# Altium footprint library SDCard.PcbLib: 4 footprints
Each footprint in its own frame and in the unit in brackets; x right, y up, seen from the top. Pads: shape width x height; smd on the part's side, far side on the other; paste and mask are expansions set on the pad; w line width, h text height; cw(c..) or ccw(c..) is an arc to the next point about the centre after c.
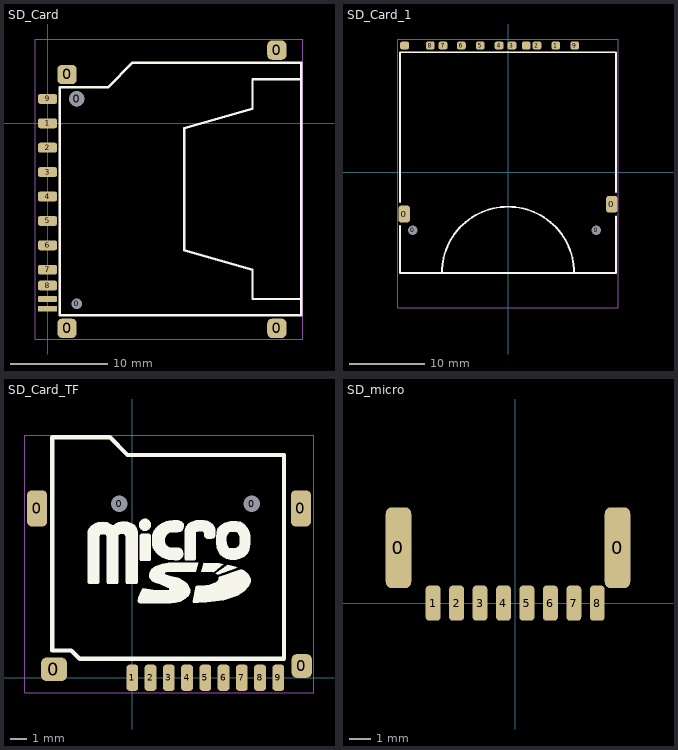
[diagram p0: the footprints below, top view; thin cyan lines are the x and y axes]

## SD_Card [mil]
pads (17):
  rrect50% 78x78 smd: 0(78.74,-826.77) 0(78.74,196.85) 0(925.2,-826.77) 0(925.2,295.28)
  round 40 hole 43.31 mask+0: 0(118.11,-728.35)
  round 60 hole 62.99 mask+0: 0(118.11,98.42)
  rrect50% 78x40 smd: 1(0,0) 2(0,-98.43) 3(0,-196.85) 4(0,-295.28) 5(0,-393.7) 6(0,-492.13) 7(0,-590.55) 8(0,-654.53) 9(0,98.42)
  rrect50% 78x24 smd: 10(0,-708.66) 11(0,-748.03)
Top Overlay:
  lines w10: 1023.62,-708.66 826.77,-708.66 826.77,-590.55 551.18,-511.81 551.18,-19.69 826.77,59.05 826.77,177.16 1023.62,177.16 ; 50,-775 50,145 243.43,145 343.42,245 1023.62,245 1023.62,-775 50,-775
Mechanical 14:
  lines w2: -50,-870 1030,-870 1030,340 -50,340 -50,-870
3D body "User Library-SD Card-1.STEP": height 85.59, standoff 34.41, extent 200.08,-737.44 1459.92,207.45
3D body "User Library-2041021-4.step": height 130.52, standoff -23.02, extent -8,-821 1025.47,280.38

## SD_Card_1 [mil]
pads (15):
  rrect50% 60x88 smd: 0(-541,-217) 0(541,-166)
  round 40 hole 50 mask+0: 0(-496,-301) 0(460,-302)
  rrect50% 46x40 smd: 1(249.02,661) 2(150.59,661) 3(20.67,661) 4(-46.26,661) 5(-144.69,661) 6(-243.11,661) 7(-338.58,661) 8(-405.51,661) 9(347.44,661) 10(95.47,661) 11(-538.58,661)
Top Overlay:
  lines w10: -562.2,-280 -562.2,-524 562.2,-524 562.2,-229 ; -562.2,-154 -562.2,626 562.2,626 562.2,-103 ; -344.49,-522.5 cw(c0,-523.5) 344.49,-522.5
Mechanical 14:
  lines w2: -575,-705 575,-705 575,695 -575,695 -575,-705
3D body "User Library-SD Card-1.STEP": height 85.59, standoff 34.41, extent -477.44,-794.19 467.44,465.65
3D body "User Library-socket_a-sd-09-d-a-1-3.STEP": height 104.33, standoff -27.56, extent -571.93,-522.41 561.93,670.5

## SD_Card_TF [mil]
pads (15):
  rrect50% 48x86 smd: 0(-226,402) 0(400,402)
  rrect50% 62x56 smd: 0(-186,20)
  round 30 hole 39.37 mask+0: 0(-31.5,413.39) 0(283.46,413.39)
  rrect50% 48x56 smd: 0(402,28)
  rrect50% 28x62 smd: 1(0,0) 2(43.31,0) 3(86.61,0) 4(129.92,0) 5(173.23,0) 6(216.54,0) 7(259.84,0) 8(303.15,0) 9(346.46,0)
Top Overlay:
  drawing of 18 lines, arcs and shapes, not listed
Mechanical 14:
  lines w2: -255,-35 -255,575 430,575 430,-35 -255,-35
3D body "User Library-Micro SD.STEP": height 78.76, standoff -18.62, extent -235.25,-26.82 406.74,572

## SD_micro [mm] "uSD"
pads (10):
  rrect50% 1.2x3.8 smd: 0(-5.475,2.6) 0(4.8,2.6)
  rrect50% 0.7x1.65 smd: 1(-3.85,0) 2(-2.75,0) 3(-1.65,0) 4(-0.55,0) 5(0.55,0) 6(1.65,0) 7(2.75,0) 8(3.85,0)
3D body "User Library-Micro_SD.STEP": height 1.95, standoff 0.97, extent -6.575,-1.25 4.425,13.75
3D body "User Library-475710001.STEP": height 2.21, standoff -0.08, extent -6,-1.225 5.4,4.225